# Altium schematic symbol library AO3401A.SchLib: 1 symbol
Pins are listed as number, name and electrical type; pins without a type are passive.

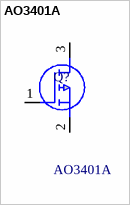
[diagram p0: symbol AO3401A]

## AO3401A
designator Q?
30V P-Channel MOSFET; Manufacturer_Name: Alpha & Omega Semiconductors; Geometry.Height: 1.25mm; Manufacturer_Part_Number: AO3401A; Mouser Part Number: *; Mouser Price/Stock: *; Arrow Part Number: AO3401A; Arrow Price/Stock: https://www.arrow.com/en/products/ao3401a/alpha-and-omega-semiconductor?region=nac; Datasheet Link: http://www.aosmd.com/pdfs/datasheet/AO3401A.pdf
footprint SOT95P280X125-3N
pins: 1 G, 2 S, 3 D